# Altium footprint library RibbonConnector.PcbLib: 2 footprints
Each footprint in its own frame and in the unit in brackets; x right, y up, seen from the top. Pads: shape width x height; smd on the part's side, far side on the other; paste and mask are expansions set on the pad; w line width, h text height; cw(c..) or ccw(c..) is an arc to the next point about the centre after c.
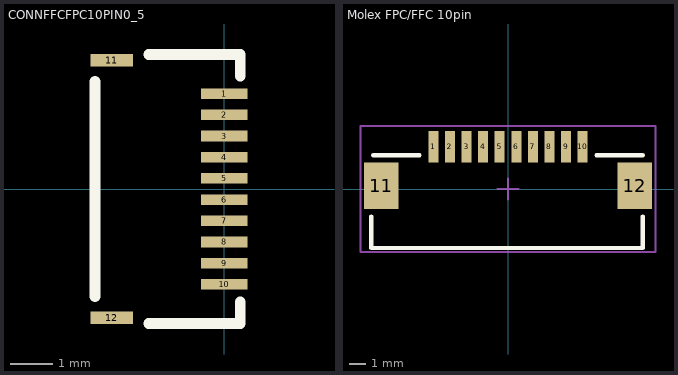
[diagram p0: the footprints below, top view; thin cyan lines are the x and y axes]

## CONNFFCFPC10PIN0_5 [mm] "CONN FFC FPC 10POS 0.50MM R/A"
pads (12):
  rect 1.1x0.25 smd: 1(0,2.25) 2(0,1.75) 3(0,1.25) 4(0,0.75) 5(0,0.25) 6(0,-0.25) 7(0,-0.75) 8(0,-1.25) 9(0,-1.75) 10(0,-2.25)
  rect 1x0.3 smd: 11(-2.65,3.04) 12(-2.65,-3.04)
Top Overlay:
  lines w0.254: -3.048,-2.54 -3.048,2.54 ; -1.778,-3.175 0.381,-3.175 0.381,-2.667 ; -1.778,3.175 0.381,3.175 0.381,2.667
3D body: height 1.88, standoff -0.02, extent -3.219,-3.35 0.381,3.35

## Molex FPC/FFC 10pin [mm] "Molex FPC/FFC 10pin Non-ZIF Connector 10pin"
pads (12):
  rect 0.6x1.9 smd: 1(-4.5,2.54) 2(-3.5,2.54) 3(-2.5,2.54) 4(-1.5,2.54) 5(-0.5,2.54) 6(0.5,2.54) 7(1.5,2.54) 8(2.5,2.54) 9(3.5,2.54) 10(4.5,2.54)
  rect 2.1x2.8 smd: 11(-7.65,0.19) 12(7.65,0.19)
Top Overlay:
  lines w0.254: -8.255,-1.651 -8.255,-3.556 8.128,-3.556 8.128,-1.651 ; -8.128,2.032 -5.334,2.032 ; 5.334,2.032 8.128,2.032
Mechanical 15:
  lines w0.127: -0.635,0 0.635,0 ; 0,-0.635 0,0.635 ; -8.89,-3.81 -8.89,3.81 8.89,3.81 8.89,-3.81 -8.89,-3.81
3D body: height 3.1, standoff 0, extent -8.15,-3.53 8.15,3.27